# Altium schematic symbol library LMAT_DCT_V2.SchLib: 3 symbols
Pins are listed as number, name and electrical type; pins without a type are passive.

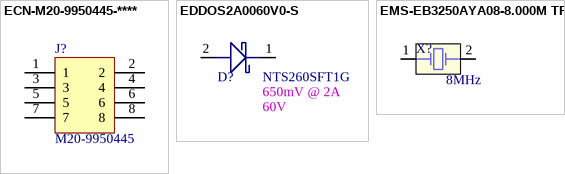
[diagram p0: symbols ECN-M20-9950445-**** to EMS-EB3250AYA08-8.000M TR]

## ECN-M20-9950445-****
designator J?, comment value M20-9950445  (hidden comment: Headers & Wire Housings 04+04 DIL HORIZONTAL PIN HEADER GOLD HT)
Manufacturer: Harwin; Vendor Part Number: 855-M20-9950445; Internal Part Number: ECN-M20-9950445-****; Vendor Name: Mouser; 3rd Auxiliary Field: ROHS Compliant; Component Height (mm): 5.08mm; 2nd Auxiliary Field: 8 Pos; 1st Auxiliary Field: 2.54 mm; Part Type: Headers & Wire Housings 04+04 DIL HORIZONTAL PIN HEADER GOLD HT; 4th Auxiliary Field: *; Temp Co: *; Manufacturer Part Number: M20-9950445
footprint HDRRA8W64P254_2X4_1016X508X1418P (Footprint not found)
pins: 1, 2, 3, 4, 5, 6, 7, 8

## EDDOS2A0060V0-S
designator D?, comment value NTS260SFT1G  2nd Auxiliary Field: 650mV @ 2A  1st Auxiliary Field: 60V  (hidden comment: DIODE SCHOTTKY 60V 2A SOD123FL)
Manufacturer: ON Semiconductor; Vendor Part Number: NTS260SFT1GOSCT-ND; Internal Part Number: EDDOS2A0060V0-S; 3rd Auxiliary Field: ROHS3 Compliant; 4th Auxiliary Field: AEC-Q101; Vendor Name: Digi-Key; Component Height (mm): 1.08mm; Temp Co: -65°C ~ 150°C; Part Type: DIODE SCHOTTKY 60V 2A SOD123FL; Manufacturer Part Number: NTS260SFT1G
footprint SODFL360X98-2N (Footprint not found)
pins: 1 K, 2 A

## EMS-EB3250AYA08-8.000M TR
designator X?, comment value 8MHz  (hidden comment: CRYSTAL 8.0000MHZ 8PF SMD)
Manufacturer: Ecliptek; Vendor Part Number: 2773-EB3250AYA08-8.000MCT-ND; Manufacturer Part Number: EB3250AYA08-8.000M TR; Internal Part Number: EMS-EB3250AYA08-8.000M TR; Vendor Name: Digi-Key; 3rd Auxiliary Field: RoHS Compliant; 4th Auxiliary Field: AEC-Q200; Component Height (mm): 1.10mm; Temp Co: -40°C ~ 125°C; 2nd Auxiliary Field: ±50ppm; Part Type: CRYSTAL 8.0000MHZ 8PF SMD; 1st Auxiliary Field: 8pF
footprint XTAL500X320X110-2N (Footprint not found)
pins: 1 Crystal, 2 Crystal